# Altium integrated library ResinPiece.IntLib: 16 symbols
Pins are listed as number, name and electrical type; pins without a type are passive.

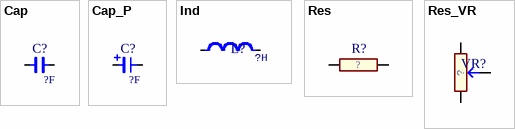
[diagram p0: symbols Cap to Res_VR]

## Cap
designator C?  value ?F  (hidden comment: *)
footprint CAP_0603
pins: 1, 2

## Cap_P
designator C?  value ?F  (hidden comment: *)
footprint CAP_TAN_P0805
footprint CAP_TAN_A1206
footprint CAP_PR_SMD_6.3
footprint CAP_PR_SMD_8.3
pins: 1, 2

## Ind
designator L?  value ?H
Inductor; Specification: ±5% 100mA; Manufacturer: *
footprint IND_0402
footprint IND_0805
footprint IND_0603
footprint IND_CD32
footprint IND_CDRH74
footprint IND_SLF10145
pins: 1, 2

## Res
designator R?  (value not drawn)
Value: ?
footprint RES_0402
footprint RES_0603
footprint RES_0805
footprint RES_2512M
footprint RES_2512
pins: 1, 2

## Res_VR
designator VR?, comment VR  (value not drawn)
Resistor Variable; Specification: ±5%; Manufacturer: *; Value: ?
footprint RES_VR_Gear
footprint RES_VR_3296W
footprint RES_VR_EVM3G/E
pins: 1, 2, 3


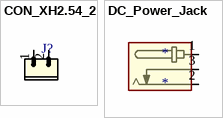
[diagram p1: symbols CON_XH2.54_2 to DC_Power_Jack]

## CON_XH2.54_2
designator J?  (value not drawn)
footprint XH2.54_2
pins: 1, 2

## DC_Power_Jack
designator *
footprint DC005; pin to pad 1>3 3>1
pins: 1, 2, 3


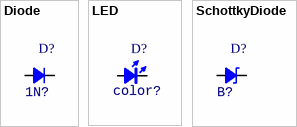
[diagram p2: symbols Diode to SchottkyDiode]

## Diode
designator D?, comment 1N?
Diode; Type: SMA; Value: 1N?
footprint SOD-80/MLL34 (Metal Electrode Face (MELF) Diode; Body 3.5 x 1.7 mm (LxDia))
pins: 1 A, 2 K

## LED
designator D?, comment color?
LED; Value: color?
footprint LED_0603
footprint LED_0402
footprint LED_0805
pins: 1 A, 2 K

## SchottkyDiode
designator D?, comment B?
Schottky Diode; Value: B?
footprint DO-214AC (SMA)
pins: 1 A, 2 K


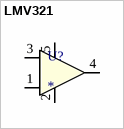
[diagram p3: symbol LMV321]

## LMV321
designator U?
footprint SOT23-5AM (SOT23, 5-Leads, Body 2.9x1.7mm, Pitch 0.95mm, Lead Span 2.8mm, IPC Low Density)
pins: 1 +IN, 2 V-, 3 -IN, 4 OUTPUT, 5 V+


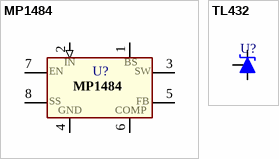
[diagram p4: symbols MP1484 to TL432]

## MP1484
designator U?  (value not drawn)
• 3A Continuous Output Current / • Wide 4.75V to 18V Operating Input Range / • Integrated 85mΩ Power MOSFET Switches / • Output Adjustable from 0.925V to 20V / • Up to 95% Efficiency / • Programmable Soft-Start / • Stable with Low ESR Ceramic Output Capacitors / • Fixed 340KHz Frequency / • Cycle-by-Cycle Over Current Protection / • Input Under Voltage Lockout / • Thermally Enhanced 8-Pin SOIC Package
footprint SOIC8N (SOIC, 8-Leads, Body 4.9x3.9mm, Pitch 1.27mm, IPC Medium Density)
pins: 1 BS, 2 IN (in), 3 SW, 4 GND (power), 5 FB, 6 IN, 7 EN, 8 SS
text: COMP

## TL432
designator U?  (value not drawn)
footprint SOT23-3M (SOT23, 3-Leads, Body 2.9x1.3mm, Pitch 0.95mm, Lead Span 2.5mm, IPC Low Density); pin to pad A>3 C>3 R>1
pins: A ANODE, C CATHODE, R REF


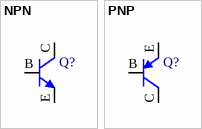
[diagram p5: symbols NPN to PNP]

## NPN
designator Q?
NPN General Purpose Amplifier; Published: 8-Jun-2000; LatestRevisionDate: 15-Jan-2003; LatestRevisionNote: PCB Footprint 'BCY-W3/D4.7' replaced; DatasheetVersion: 1997; PackageVersion: Sep-1998; PackageReference: TO-92A; Publisher: Altium Limited; PackageDescription: TO, Flat Index; 3 In-Line, Axial Leads; Body Dia. 4.5mm; Leads 0.51 x 0.48 mm (max); ComponentLink1Description: Manufacturer Link; ComponentLink1URL: http://www.fairchildsemi.com/; ComponentLink2Description: Datasheet; ComponentLink2URL: http://www.fairchildsemi.com/ds/2N%2F2N3904.pdf
footprint SOT23-3M (SOT23, 3-Leads, Body 2.9x1.3mm, Pitch 0.95mm, Lead Span 2.5mm, IPC Low Density); pin to pad B>1 C>3 E>2
pins: B, C, E

## PNP
designator Q?
PNP General Purpose Amplifier; Published: 8-Jun-2000; LatestRevisionDate: 15-Jan-2003; LatestRevisionNote: PCB Footprint 'BCY-W3/D4.7' replaced; DatasheetVersion: 1997; PackageVersion: Sep-1998; PackageReference: TO-92A; Publisher: Altium Limited; PackageDescription: TO, Flat Index; 3 In-Line, Axial Leads; Body Dia. 4.5mm; Leads 0.51 x 0.48 mm (max); ComponentLink1Description: Manufacturer Link; ComponentLink1URL: http://www.fairchildsemi.com/; ComponentLink2Description: Datasheet; ComponentLink2URL: http://www.fairchildsemi.com/ds/2N%2F2N3906.pdf
footprint SOT23-3M (SOT23, 3-Leads, Body 2.9x1.3mm, Pitch 0.95mm, Lead Span 2.5mm, IPC Low Density); pin to pad B>1 C>3 E>2
pins: B, C, E


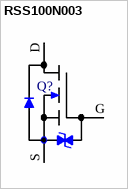
[diagram p6: symbol RSS100N003]

## RSS100N003
designator Q?  (value not drawn)
footprint SOP8_M (SOIC, 8-Leads, Body 4.9x3.9mm, Pitch 1.27mm, IPC Low Density); pin to pad D>6 DD>7 DDD>8 DDDD>5 G>4 S>3 SS>1 SSS>2
footprint SOP8_L (SOIC, 8-Leads, Body 4.9x3.9mm, Pitch 1.27mm, IPC High Density); pin to pad D>6 DD>7 DDD>8 DDDD>5 G>4 S>3 SS>1 SSS>2
footprint SOP8_N (SOIC, 8-Leads, Body 4.9x3.9mm, Pitch 1.27mm, IPC Medium Density); pin to pad D>6 DD>7 DDD>8 DDDD>5 G>4 S>3 SS>1 SSS>2
pins: D, DD, DDD, DDDD, G, S, SS, SSS